# Altium integrated library SY8089A1.IntLib: 1 symbol
Pins are listed as number, name and electrical type; pins without a type are passive.

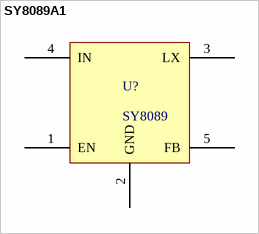
[diagram p0: symbol SY8089A1]

## SY8089A1
designator U?, comment SY8089
footprint SOT95P280X145-5N
pins: 1 EN, 2 GND, 3 LX, 4 IN, 5 FB